# Altium schematic symbol library BV030-7294.Schlib: 1 symbol
Pins are listed as number, name and electrical type; pins without a type are passive.

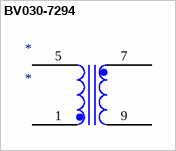
[diagram p0: symbol BV030-7294]

## BV030-7294
designator *
pins: 1, 5, 7, 9